# Altium footprint library Clock.PcbLib: 1 footprints
Each footprint in its own frame and in the unit in brackets; x right, y up, seen from the top. Pads: shape width x height; smd on the part's side, far side on the other; paste and mask are expansions set on the pad; w line width, h text height; cw(c..) or ccw(c..) is an arc to the next point about the centre after c.
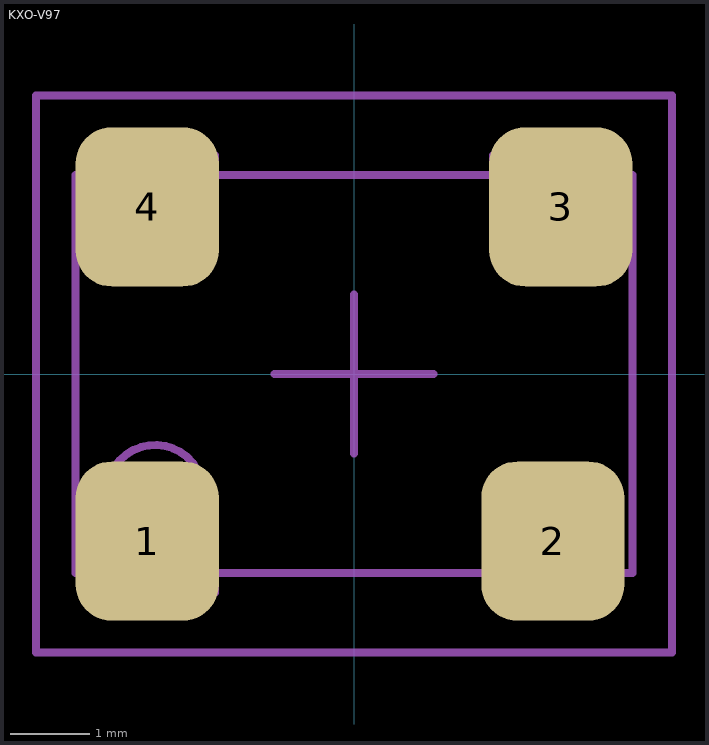
[diagram p0: the footprint, top view; thin cyan lines are the x and y axes]

## KXO-V97 [mm] "Clock oscillator QSMD7.0x5.0x1.8mm"
height 1.8
pads (4):
  rrect50% 1.8x2 smd: 1(-2.6,-2.1) 2(2.5,-2.1) 3(2.6,2.1) 4(-2.6,2.1)
Mechanical 13:
  circle w0.1: c-2.5,-1.5 r0.608
  lines w0.1: -3.25,-2.5 -3.25,-2.75 -1.75,-2.75 -1.75,-2.5 ; -3.25,2.5 -3.25,2.75 -1.75,2.75 -1.75,2.5 ; 1.75,-2.5 1.75,-2.75 3.25,-2.75 3.25,-2.5 ; 1.75,2.5 1.75,2.75 3.25,2.75 3.25,2.5 ; -3.5,-2.5 -3.5,2.5 -1.5,2.5 3.5,2.5 3.5,-2.5 -3.5,-2.5
  text ".Designator" at -2.032,-0.254 h1
Mechanical 15:
  lines w0.1: -1,0 1,0 ; 0,-1 0,1 ; -4,-3.5 -4,3.5 4,3.5 4,-3.5 -4,-3.5
3D body: height 1.9, standoff 1.8, extent -3,-2 -2,-0.5
3D body: height 1.8, standoff 1.7, extent -3.25,-2.25 3.25,2.25
3D body: height 1.7, standoff 1.5, extent -3.5,-2.5 3.5,2.5
3D body: height 1.5, standoff 0, extent -3.5,-2.5 3.5,2.5
3D body: height 1.5, standoff 0, extent -3,2 -2,2.5
3D body: height 1.5, standoff 0, extent -3,-2.5 -2,-2
3D body: height 1.5, standoff 0, extent 2,-2.5 3,-2
3D body: height 1.5, standoff 0, extent 2,2 3,2.5